# Altium schematic symbol library UZ_CarrierBoard.SCHLIB: 106 symbols
Pins are listed as number, name and electrical type; pins without a type are passive.

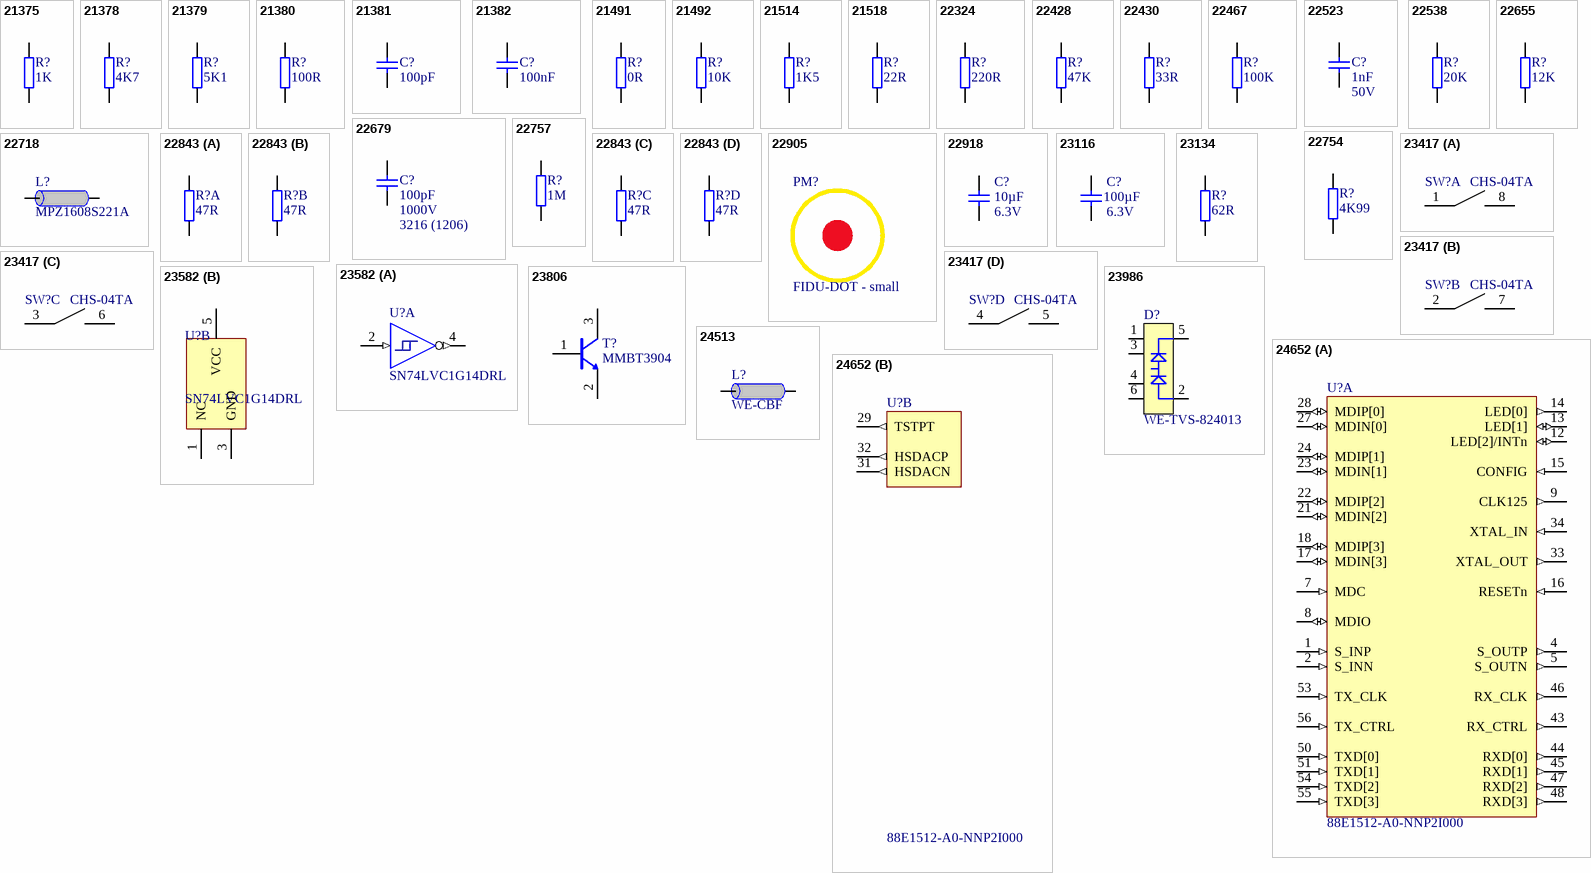
[diagram p0: symbols 21375 to 24652]

## 21375
designator R?, comment 1K
WID SMD 1K 1% 0,1W; AN: 21375; Mixed: SMT; Preferred: Yes; Extra: BF 1608 (0603); Value: 1K; Tolerance: 1%; Case: 1608 (0603); Technology: TK100
footprint RESC1608X55N_V
pins: 1, 2

## 21378
designator R?, comment 4K7
WID SMD 4K7 1% 0,1W BF 1608 (0603); Value: 4.7K; AN: 21378; Mixed: SMT; Preferred: Yes; Tolerance: 1%; Case: 1608 (0603); Technology: TK100
footprint RESC1608X55N_V
pins: 1, 2

## 21379
designator R?, comment 5K1
WID SMD 5K1 1% 0,1W; AN: 21379; Mixed: SMT; Value: 5.1K; Preferred: Yes; Extra: BF 1608 (0603); Tolerance: 1%; Case: 1608 (0603); Technology: TK100
footprint RESC1608X55N_V
pins: 1, 2

## 21380
designator R?, comment 100R
WID SMD 100R 1% 0,1W BF 1608 (0603); Value: 100; AN: 21380; Mixed: SMT; Preferred: Yes; Tolerance: 1%; Case: 1608 (0603); Technology: TK100
footprint RESC1608X55N_V
pins: 1, 2

## 21381
designator C?, comment 100pF
KON 100pF 50V NP0 ±5% SMD BF 1608 (0603); Value: 100p; AN: 21381; Mixed: SMT; Preferred: Yes; Tolerance: ±5%; Voltage: 50V; Technology: C0G NP0; Case: 1608 (0603)
footprint CAPC1608X90N_V
pins: 1, 2

## 21382
designator C?, comment 100nF
KON 100nF 50V X7R ±10% SMD BF 1608 (0603); Value: 100n; AN: 21382; Mixed: SMT; Preferred: Yes; Temperature-Range: -55/+125; Tolerance: ±10%; Voltage: 50V; Technology: X7R; Case: 1608 (0603)
footprint CAPC1608X90N_V
pins: 1, 2

## 21491
designator R?, comment 0R
WID SMD 0R 0,1W 1% TK100  BF 1608 (0603); Value: 0; AN: 21491; Mixed: SMT; Tolerance: 1%; Case: 1608 (0603); Technology: TK100
footprint RESC1608X55N_V
pins: 1, 2

## 21492
designator R?, comment 10K
WID SMD 10K 1% 0,1W  BF 1608 (0603); AN: 21492; Mixed: SMT; Preferred: Yes; Value: 10K; Tolerance: 1%; Case: 1608 (0603); Technology: TK100
footprint RESC1608X55N_V
pins: 1, 2

## 21514
designator R?, comment 1K5
WID SMD 1K5 1% 0,1W; Value: 1.5K; AN: 21514; Mixed: SMT; Extra: BF 1608 (0603); Tolerance: 1%; Case: 1608 (0603); Technology: TK100
footprint RESC1608X55N_V
pins: 1, 2

## 21518
designator R?, comment 22R
WID SMD 22R 1% 0,1W; Value: 22; AN: 21518; Mixed: SMT; Extra: BF 1608 (0603); Tolerance: 1%; Case: 1608 (0603); Technology: TK100
footprint RESC1608X55N_V
pins: 1, 2

## 22324
designator R?, comment 220R
WID SMD 220R 1% 0,1W; Value: 220; AN: 22324; Mixed: SMT; Extra: BF 1608 (0603); Tolerance: 1%; Case: 1608 (0603); Technology: TK100
footprint RESC1608X55N_V
pins: 1, 2

## 22428
designator R?, comment 47K
WID SMD 47K 1% 0,1W  BF 1608 (0603); AN: 22428; Mixed: SMT; Value: 47K; Tolerance: 1%; Case: 1608 (0603); Technology: TK100; Extra: BF 1608 (0603)
footprint RESC1608X55N_V
pins: 1, 2

## 22430
designator R?, comment 33R
WID SMD 33R 1% 0,1W; Value: 33; AN: 22430; Mixed: SMT; Extra: BF 1608 (0603); Tolerance: 1%; Case: 1608 (0603); Technology: TK100
footprint RESC1608X55N_V
pins: 1, 2

## 22467
designator R?, comment 100K
WID SMD 100K 1% 0,1W; AN: 22467; Mixed: SMT; Extra: BF 1608 (0603); Value: 100K; Tolerance: 1%; Case: 1608 (0603); Technology: TK100
footprint RESC1608X55N_V
pins: 1, 2

## 22523
designator C?, comment 1nF  Voltage: 50V
KON 1nF 50V NP0 5% SMD BF 1608 (0603); Value: 1n; AN: 22523; Mixed: SMT; Technology: NP0; Case: 1608 (0603)
footprint CAPC1608X90N_V
pins: 1, 2

## 22538
designator R?, comment 20K
WID SMD 20K 1% 0,1W; AN: 22538; Mixed: SMT; Extra: BF 1608 (0603); Value: 20K; Tolerance: 1%; Case: 1608 (0603); Technology: TK100
footprint RESC1608X55N_V
pins: 1, 2

## 22655
designator R?, comment 12K
WID SMD 12K 1% 0,1W; AN: 22655; Mixed: SMT; Extra: BF 1608 (0603); Tolerance: 1%; Case: 1608 (0603); Technology: TK100; Value: 12K
footprint RESC1608X55N_V
pins: 1, 2

## 22679
designator C?, comment 100pF  Voltage: 1000V  Case: 3216 (1206)
KON 100pF 1000V X7R 10%  BF 3216 (1206); Value: 100p; AN: 22679; Mixed: SMT; Preferred: Yes; Temperature-Range: -55/+125; Tolerance: 10%; Technology: X7R
footprint CAPC3216X180N_V
pins: 1, 2

## 22718
designator L?, comment MPZ1608S221A
Ferritdurchführung MPZ1608S221A; Value: 220 OHm @ 100MHz; AN: 22718; Mixed: SMT; Trenz-Stock: Yes; Temperature-Range: -55/+125; Extra: 0,05 Ohm DC, 220 Ohm bei 100MHz. 2A; Case: 1608 (0603); HelpURL: B:\AD\adlib\datasheet\MPZ1608; Preferred: Yes; H-ART: MPZ1608S221A; Storage-Temperature: -55/+125
footprint INDC1608X95N_V
pins: 1, 2

## 22754
designator R?, comment 4K99
WID SMD 4K99 1% 0,063W BF 1005 (0402); AN: 22754; Mixed: SMT; Value: 4.99K; Preferred: Yes; H-ART: RC0402FR-074K99L; Tolerance: 1%; Case: 1005 (0402); Technology: TK100
footprint RESC1005X40N_V
pins: 1, 2

## 22757
designator R?, comment 1M
WID SMD 1M 5% 0,25W  BF 3216 (1206); AN: 22757; Mixed: SMT; Preferred: Yes; Value: 1M; Tolerance: 5%; Case: 3216 (1206); Technology: TK100
footprint RESC3216X65N_V
pins: 1, 2

## 22843
designator R?, comment 47R
WID SMD Netz 4 fach 47R; AN: 22843; Tolerance: 5%; Mixed: SMT; Value: 47; Extra: BF 3216 (1206); Case: 3216 (1206)
footprint RESCAV80P160X320X70-8N
part A pins: 1, 8
part B pins: 2, 7
part C pins: 3, 6
part D pins: 4, 5

## 22905
designator PM?, comment FIDU-DOT - small
FIDU-DOT - SMALL 1mm; AN: 22905; Mixed: FIDU
footprint FIDU-DOT - small

## 22918
designator C?, comment 10µF  Voltage: 6.3V
KON 10µF 6,3V X5R SMD BF 1608 (0603); Value: 10u; AN: 22918; Mixed: SMT; Temperature-Range: -55/+85; Technology: X5R; Case: 1608 (0603)
footprint CAPC1608X90N_V
pins: 1, 2

## 23116
designator C?, comment 100µF  Voltage: 6.3V
KON 100µF 6,3V X5R 20% SMD BF 3216 (1206); AN: 23116; Mixed: SMT; Value: 100u; Preferred: Yes; Temperature-Range: -55/+85; Technology: X5R; Case: 3216 (1206); Tolerance: 20%
footprint CAPC3216X180N_V
pins: 1, 2

## 23134
designator R?, comment 62R
WID SMD 62R 1% 0,063W; Value: 62; AN: 23134; Mixed: SMT; Preferred: Yes; Extra: BF 1005 (0402); Tolerance: 1%; Case: 1005 (0402); Technology: TK100
footprint RESC1005X40N_V
pins: 1, 2

## 23417
designator SW?, comment CHS-04TA
DIP Schalter 4 fach 1,27mm SMD; AN: 23417; Mixed: SMT; Trenz-Stock: Yes; HelpURL: B:\AD\adlib\datasheet\CHS; Preferred: Yes; H-ART: CHS-04TA; Extra: CHS-04TA
footprint CHS-04TA
part A pins: 1, 8
part B pins: 2, 7
part C pins: 3, 6
part D pins: 4, 5

## 23582
designator U?, comment SN74LVC1G14DRL
AN: 23582; Mixed: SMT; Trenz-Stock: Yes; Extra: Single Schmitt-Trigger Inverter; Case: DRL; HelpURL: B:\AD\adlib\datasheet\SN74LVC1G14; H-ART: SN74LVC1G14DRL
footprint SOTFL50P160X60-5N
part A pins: 2 A (in), 4 Y (out)
part B pins: 1 NC, 3 GND (power), 5 VCC (power)

## 23806
designator T?, comment MMBT3904
AN: 23806; Mixed: SMT; Trenz-Stock: Yes; Extra: NPN General Purpose Amplifier; Case: SOT23-3; HelpURL: B:\AD\adlib\datasheet\MMBT3904; Preferred: Yes; H-ART: MMBT3904
footprint SOT95P280X145-3N
pins: 1 BASIS, 2 EMITTER, 3 COLLECTOR

## 23986
designator D?, comment WE-TVS-824013
TVS/Clamp Diode Array 3.3/9V Quad SOT23-6; AN: 23986; Mixed: SMT; Trenz-Stock: Yes; H-ART: 824013; Extra: ESD Protection for 4 lines, Low capacitance; Case: SOT23-6; HelpURL: B:\AD\adlib\datasheet\WE-TVS-824013; Preferred: Yes
footprint SOT95P280X145-6N
pins: 1 I/O1, 2 GND (power), 3 I/O2, 4 I/O3, 5 VDD (power), 6 I/O4

## 24513
designator L?, comment WE-CBF
Ferritdurchführung SMD 0805; AN: 24513; Voltage: 2000mA; Mixed: SMT; Trenz-Stock: Yes; H-ART: 742792040; Extra: 0,15 Ohm DC, 600 Ohm bei 100MHz, 700 Ohm bei 150Mhz, 2000mA; Case: 2012 (0805); Technology: 0.15Ohm; HelpURL: B:\AD\adlib\datasheet\742792040
footprint INDC2012X92N_V
pins: 1, 2

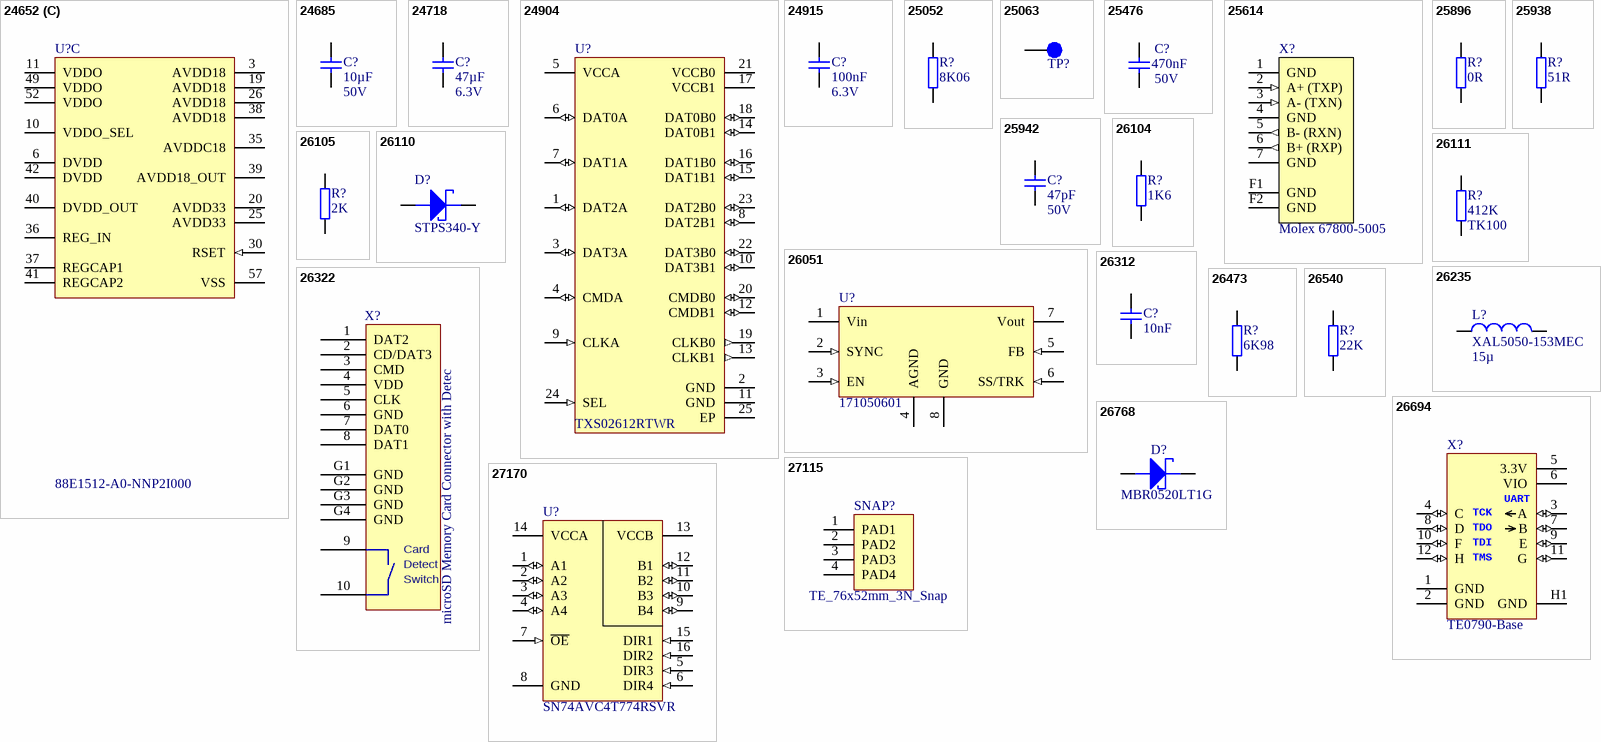
[diagram p1: symbols 24652 to 27170]

## 24652
designator U?, comment 88E1512-A0-NNP2I000
AN: 24652; Mixed: SMT; Trenz-Stock: Yes; Temperature-Range: -40/+85; Extra: Energy Efficient Gigabit Ethernet Transceiver, Industrial; Case: QFN56; HelpURL: B:\AD\adlib\datasheet\NDA\88E1512; Preferred: Yes; H-ART: 88E1512-A0-NNP2I000; Storage-Temperature: -55/+125 (Abs)
footprint QFN50P800X800X100-57N
part A pins: 1 S_INP (in), 2 S_INN (in), 4 S_OUTP (out), 5 S_OUTN (out), 7 MDC (in), 8 MDIO (io), 9 CLK125 (out), 12 LED[2]/INTn (io), 13 LED[1] (io), 14 LED[0] (out), 15 CONFIG (in), 16 RESETn (in), 17 MDIN[3] (io), 18 MDIP[3] (io), 21 MDIN[2] (io), 22 MDIP[2] (io), 23 MDIN[1] (io), 24 MDIP[1] (io), 27 MDIN[0] (io), 28 MDIP[0] (io), 33 XTAL_OUT (out), 34 XTAL_IN (in), 43 RX_CTRL (out), 44 RXD[0] (out), 45 RXD[1] (out), 46 RX_CLK (out), 47 RXD[2] (out), 48 RXD[3] (out), 50 TXD[0] (in), 51 TXD[1] (in), 53 TX_CLK (in), 54 TXD[2] (in), 55 TXD[3] (in), 56 TX_CTRL (in)
part B pins: 29 TSTPT (out), 31 HSDACN (out), 32 HSDACP (out)
part C pins: 3 AVDD18 (power), 6 DVDD (power), 10 VDDO_SEL (power), 11 VDDO (power), 19 AVDD18 (power), 20 AVDD33 (power), 25 AVDD33 (power), 26 AVDD18 (power), 30 RSET (in), 35 AVDDC18 (power), 36 REG_IN (power), 37 REGCAP1, 38 AVDD18 (power), 39 AVDD18_OUT (power), 40 DVDD_OUT (power), 41 REGCAP2, 42 DVDD (power), 49 VDDO (power), 52 VDDO (power), 57 VSS (power)

## 24685
designator C?, comment 10µF  Voltage: 50V
KON 10µF 50V X5R 10%  SMD BF 3216 (1206); Value: 10u; AN: 24685; Mixed: SMT; Temperature-Range: -55/+85; Preferred: Yes; Technology: X5R; Case: 3216 (1206); Tolerance: 10%
footprint CAPC3216X180N_V
pins: 1, 2

## 24718
designator C?, comment 47µF  Voltage: 6.3V
KON 47µF 6,3V X5R 20% SMD BF 2012 (0805); Value: 47u; AN: 24718; Mixed: SMT; Preferred: Yes; H-ART: CC0805MKX5R5BB476; Temperature-Range: -55/+85; Tolerance: 20%; Technology: X5R; Case: 2012 (0805)
footprint CAPC2012X135N_V
pins: 1, 2

## 24904
designator U?, comment TXS02612RTWR
AN: 24904; Mixed: SMT; Trenz-Stock: Yes; Extra: SDIO Port Expander With Voltage-Level Translation; HelpURL: B:\AD\adlib\datasheet\TXS02612; Case: QFN24; H-ART: TXS02612RTWR
footprint QFN50P400X400X80-25N-255
pins: 1 DAT2A (io) "Data bit 2. Referenced to VCCA.", 2 GND (power) "Ground", 3 DAT3A (io) "Data bit 3. Referenced to VCCA.", 4 CMDA (io) "Command bit. Referenced to VCCA.", 5 VCCA (power) "A-port supply voltage. 1.1 V = VCCA = 3.6 V.", 6 DAT0A (io) "Data bit 0. Referenced to VCCA.", 7 DAT1A (io) "Data bit 1. Referenced to VCCA.", 8 DAT2B1 (io) "Data bit 2. Referenced to VCCB1.", 9 CLKA (in) "Clock input A. Referenced to VCCA.", 10 DAT3B1 (io) "Data bit 3. Referenced to VCCB1.", 11 GND (power) "Ground", 12 CMDB1 (io) "Command bit. Referenced to VCCB1.", 13 CLKB1 (out) "Clock output. Referenced to VCCB1.", 14 DAT0B1 (io) "Data bit 0. Referenced to VCCB1.", 15 DAT1B1 (io) "Data bit 1. Referenced to VCCB1.", 16 DAT1B0 (io) "Data bit 1. Referenced to VCCB0.", 17 VCCB1 (power) "B1-port supply voltage. 1.1 V = VCCB1 = 3.6 V.", 18 DAT0B0 (io) "Data bit 0. Referenced to VCCB0.", 19 CLKB0 (out) "Clock output. Referenced to VCCB0.", 20 CMDB0 (io) "Command bit. Referenced to VCCB0.", 21 VCCB0 (power) "B0-port supply voltage. 1.1 V = VCCB0 = 3.6 V.", 22 DAT3B0 (io) "Data bit 3. Referenced to VCCB0.", 23 DAT2B0 (io) "Data bit 2. Referenced to VCCB0.", 24 SEL (in) "Select pin to choose between B0 and B1. Referenced to VCCA.", 25 EP "Ground"

## 24915
designator C?, comment 100nF  Voltage: 6.3V
KON 100nF 6.3V X5R 10% SMD BF 0603 (0201); AN: 24915; Mixed: SMT; Value: 100n; Preferred: Yes; Temperature-Range: -55/+85; Technology: X5R; Case: 0603 (0201); Tolerance: 10%
footprint CAPC0603X33N_V
pins: 1, 2

## 25052
designator R?, comment 8K06
WID SMD 8K06 1% 0,063W BF 1005 (0402); AN: 25052; Mixed: SMT; Value: 8.06K; Preferred: Yes; Tolerance: 1%; Case: 1005 (0402); Technology: TK100
footprint RESC1005X40N_V
pins: 1, 2

## 25063
designator TP?, comment Testpoint 1mm  (value not drawn)
AN: 25063; Mixed: SMT
footprint TP_1mm
pins: 1

## 25476
designator C?, comment 470nF  Voltage: 50V
KON 470nF 50V X7R SMD  BF 1608 (0603); Value: 470n; AN: 25476; Mixed: SMT; Preferred: Yes; Temperature-Range: -55/+125; Technology: X7R; Case: 1608 (0603)
footprint CAPC1608X90N_V
pins: 1, 2

## 25614
designator X?, comment Molex 67800-5005
SATA 7Pol. Connector Vertical; AN: 25614; Mixed: SMT; HelpURL: B:\AD\adlib\datasheet\67800-5005; H-ART: 67800-5005; Extra: Molex 67800-5005
footprint 67800-5005
pins: 1 GND (power), 2 A+ (TXP) (in), 3 A- (TXN) (in), 4 GND (power), 5 B- (RXN) (out), 6 B+ (RXP) (out), 7 GND (power), F1 GND (power), F2 GND (power)

## 25896
designator R?, comment 0R
WID SMD 0R 0,25W; Value: 0; Tolerance: 1%; AN: 25896; Mixed: SMT; Preferred: Yes; Extra: BF 3216 (1206); Case: 3216 (1206); Technology: TK100
footprint RESC3216X65N_V
pins: 1, 2

## 25938
designator R?, comment 51R
WID SMD 51R 1% 0,1W  BF 1608 (0603); Value: 51; AN: 25938; Mixed: SMT; Preferred: Yes; Tolerance: 1%; Case: 1608 (0603); Technology: TK100
footprint RESC1608X55N_V
pins: 1, 2

## 25942
designator C?, comment 47pF  Voltage: 50V
KON 47pF 50V NP0 5%  SMD BF 1608 (0603); Value: 47p; AN: 25942; Mixed: SMT; Preferred: Yes; Tolerance: 5%; Technology: NP0; Case: 1608 (0603)
footprint CAPC1608X90N_V
pins: 1, 2

## 26051
designator U?, comment 171050601
AN: 26051; Mixed: SMT; Extra: 6-36V 5A MagI³C Power Module; Voltage: Adj.; Temperature-Range: -40/+125 (Tj); HelpURL: B:\AD\adlib\datasheet\171050601; Case: TO263-7EP; H-ART: 171050601; Storage-Temperature: -65/+150 (Abs)
footprint 7TO-PMOD
pins: 1 Vin (power), 2 SYNC (in), 3 EN (in), 4 AGND (power), 5 FB (in), 6 SS/TRK (in), 7 Vout (power), 8 GND (power)

## 26104
designator R?, comment 1K6
WID SMD 1K6 1% 0,1W AEC-Q200  BF 1608 (0603); Value: 1.6k; AN: 26104; Mixed: SMT; Tolerance: 1%; Technology: TK100; Case: 1608 (0603); HelpURL: B:\AD\adlib\datasheet\DCRCWe3
footprint RESC1608X55N_V
pins: 1, 2

## 26105
designator R?, comment 2K
WID SMD 2K 1% 0,1W AEC-Q200  BF 1608 (0603); AN: 26105; Mixed: SMT; Value: 2k; Tolerance: 1%; Technology: TK100; Case: 1608 (0603); HelpURL: B:\AD\adlib\datasheet\DCRCWe3
footprint RESC1608X55N_V
pins: 1, 2

## 26110
designator D?, comment STPS340-Y
Schottky Diode 3A 40V DO-214AA, SMB; AN: 26110; Mixed: SMT; H-ART: STPS340-UY; Extra: AEC-Q101; Case: SMB; Voltage: 40V; Technology: AEC-Q200; HelpURL: B:\AD\adlib\datasheet\STPS340-Y
footprint DIOM5336X265N
pins: 1 KATHODE, 2 ANODE

## 26111
designator R?, comment 412K  Technology: TK100
WID SMD 412K 1% 0,1W AEC-Q200; AN: 26111; Mixed: SMT; Preferred: Yes; Extra: BF 1608 (0603); Value: 412k; Tolerance: 1%; Case: 1608 (0603); HelpURL: B:\AD\adlib\datasheet\DCRCWe3
footprint RESC1608X55N_V
pins: 1, 2

## 26235
designator L?, comment XAL5050-153MEC  value 15µ
Power Inductor 15µH 20% 3.9A 76.7mOhms; AN: 26235; Mixed: SMT; Voltage: 3.9A 76.7mOhms; HelpURL: B:\AD\adlib\datasheet\xal50xx; H-ART: XAL5050-153MEC; Extra: XAL5050-153MEC
footprint IND_XAL5050
pins: 1, 2

## 26312
designator C?, comment 10nF
KON 10nF 10V X7R 10% SMD BF 0603 (0201); AN: 26312; Mixed: SMT; Value: 10n; Preferred: Yes; Temperature-Range: -55/+125; Voltage: 10V; Technology: X7R; Case: 0603 (0201); Tolerance: 10%
footprint CAPC0603X33N_V
pins: 1, 2

## 26322
designator X?, comment microSD Memory Card Connector with Detec
microSD Memory Card Connector with Detect Switch; AN: 26322; Mixed: SMT; Trenz-Stock: Yes; H-ART: 104031-0811; Temperature-Range: -25/+85; Extra: Molex 104031-0811; Case: microSD; HelpURL: B:\AD\adlib\datasheet\104031-0811; Storage-Temperature: -10/+60
footprint 104031-0811
pins: 1 DAT2, 2 CD/DAT3, 3 CMD, 4 VDD, 5 CLK, 6 GND, 7 DAT0, 8 DAT1, 9 CDSW, 10 CDSW, G1 GND, G2 GND, G3 GND, G4 GND
text: Card; Detect; Switch

## 26473
designator R?, comment 6K98
WID SMD 6K98 1% 0,1W  BF 1608 (0603); AN: 26473; Mixed: SMT; Value: 6.98k; Preferred: Yes; Tolerance: 1%; Case: 1608 (0603); Technology: TK100
footprint RESC1608X55N_V
pins: 1, 2

## 26540
designator R?, comment 22K
WID SMD 22K 1% 0,1W  BF 1608 (0603); AN: 26540; Mixed: SMT; Tolerance: 1%; Case: 1608 (0603); Technology: TK100; Value: 22K
footprint RESC1608X55N_V
pins: 1, 2

## 26694
designator X?, comment TE0790-Base
AN: 26694; Mixed: THT; Trenz-Article-Number: 22495; Extra: Connector on Baseboard
footprint TE0790-Base
pins: 1 GND (power), 2 GND (power), 3 A (io), 4 C (io), 5 3.3V (power), 6 VIO (power), 7 B (io), 8 D (io), 9 E (io), 10 F (io), 11 G (io), 12 H (io), H1 GND (power)
text: UART; TCK; TDO; TDI; TMS

## 26768
designator D?, comment MBR0520LT1G
Schottky Diode 0.5A 20V SOD-123; AN: 26768; Mixed: SMT; Extra: AEC−Q101; Value: 20V; Case: SOD123-FC; Voltage: 0.5A; HelpURL: B:\AD\adlib\datasheet\MBR0520; H-ART: MBR0520LT1G
footprint SOD3816X120N
pins: 1 KATHODE, 2 ANODE

## 27115
designator SNAP?, comment TE_76x52mm_3N_Snap  (no BOM)
TE0808 76x52mm Snap; AN: 27115; Mixed: SMT
footprint TE_76x52mm_Snap
pins: 1 PAD1 (power), 2 PAD2 (power), 3 PAD3 (power), 4 PAD4 (power)

## 27170
designator U?, comment SN74AVC4T774RSVR
AN: 27170; Mixed: SMT; Trenz-Stock: Yes; Extra: 4-Bit Dual-Supply Bus Transceiver With Configurable Voltage Translationand 3-Sta; HelpURL: B:\ad\adlib\datasheet\sn74avc4t774; Case: UQFN-16; H-ART: SN74AVC4T774RSVR
footprint QFN40P260X180X55-16N
pins: 1 A1 (io), 2 A2 (io), 3 A3 (io), 4 A4 (io), 5 DIR3 (in), 6 DIR4 (in), 7 ~{OE} (in), 8 GND (power), 9 B4 (io), 10 B3 (io), 11 B2 (io), 12 B1 (io), 13 VCCB (power), 14 VCCA (power), 15 DIR1 (in), 16 DIR2 (in)

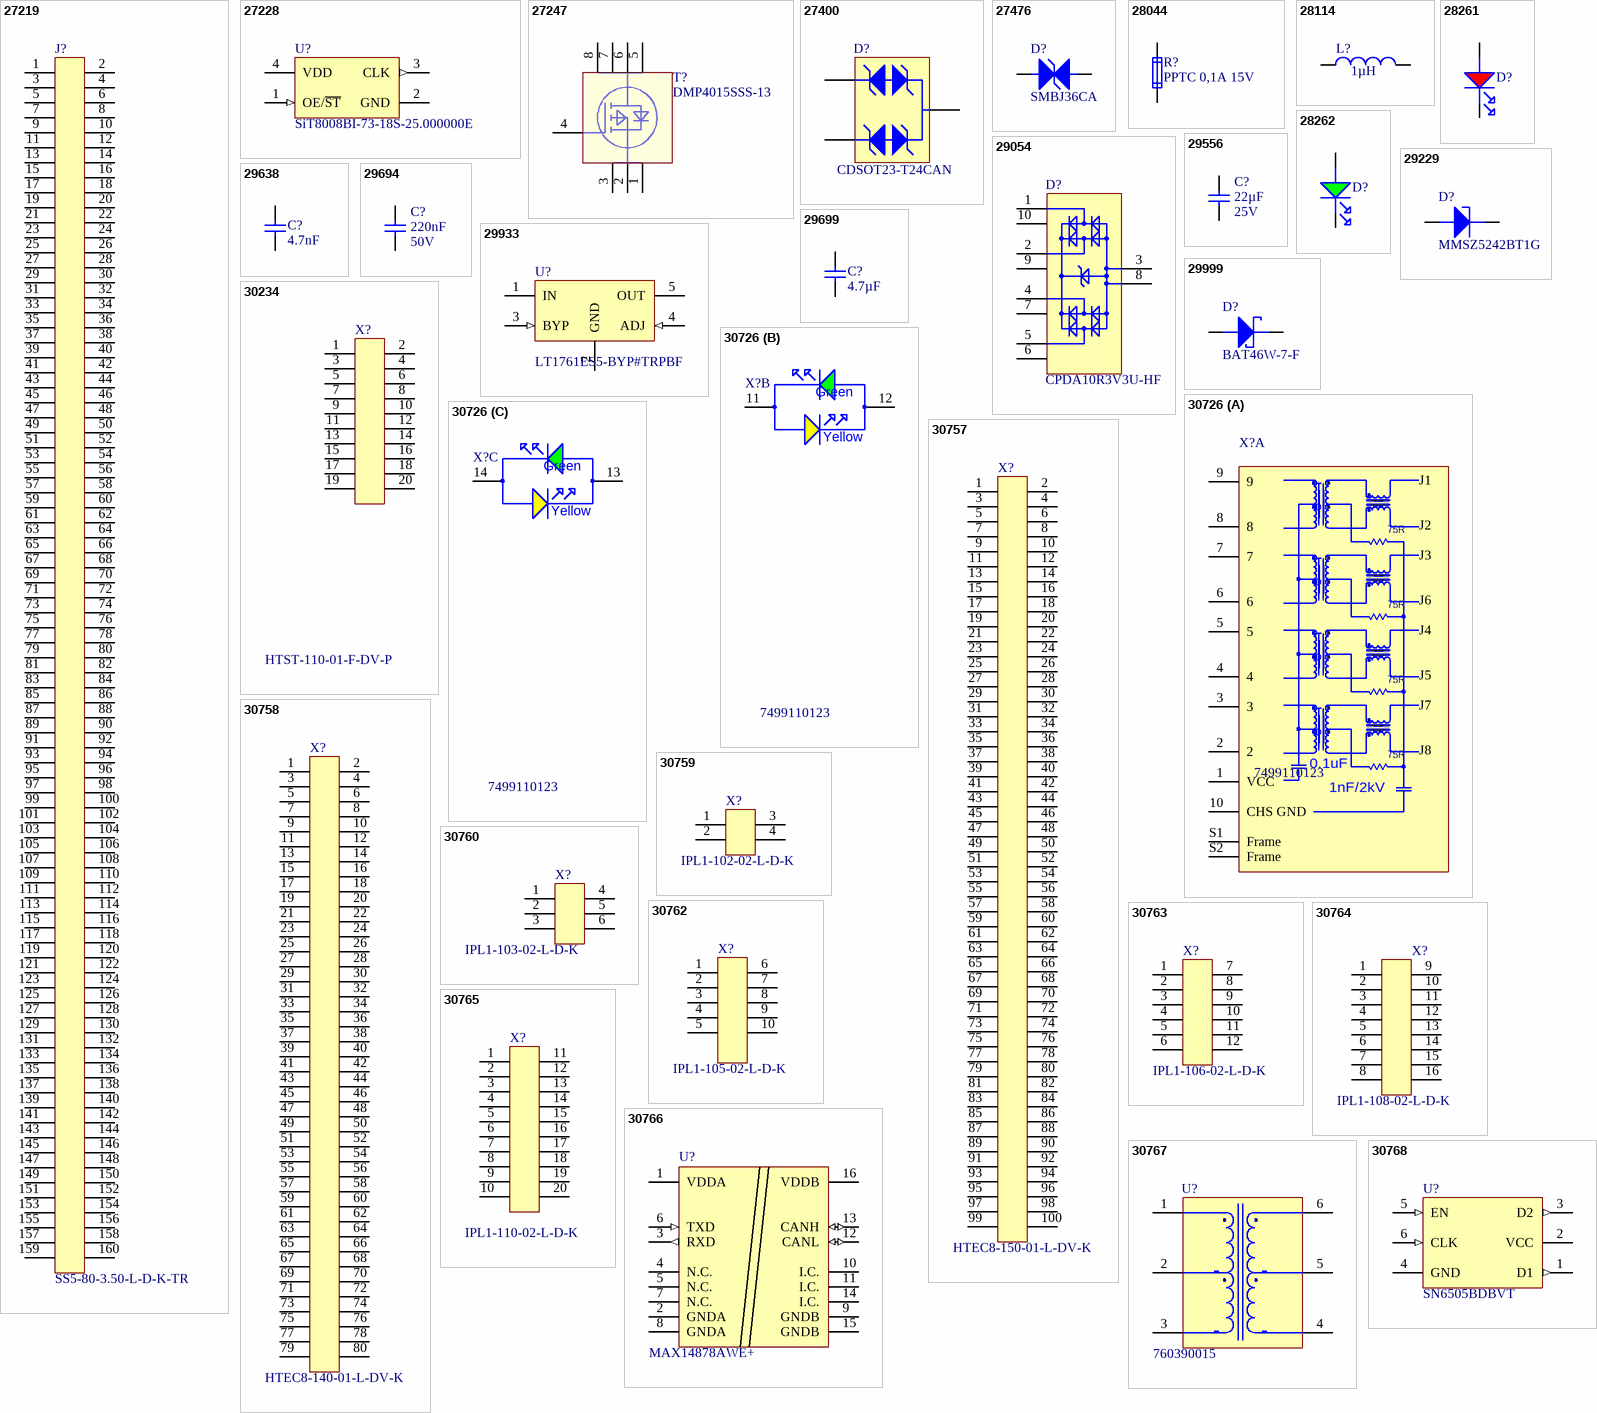
[diagram p2: symbols 27219 to 30768]

## 27219
designator J?, comment SS5-80-3.50-L-D-K-TR
Samtec Ultra Fine Pitch Socket REF192552-01, 160 Pins; AN: 27219; Mixed: SMT; Preferred: Yes; Extra: SS5 160pins Connector Socket Female SS5⁃80⁃3.50⁃L⁃D⁃K⁃TR; HelpURL: B:\ad\adlib\datasheet\SS5-XX-X.XX-X-D-K-TR; H-ART: REF 192552-01
footprint SS5-80-3.50-L-D-K-TR
pins: 1, 2, 3, 4, 5, 6, 7, 8, 9, 10, 11, 12, 13, 14, 15, 16, 17, 18, 19, 20, 21, 22, 23, 24, 25, 26, 27, 28, 29, 30, 31, 32, 33, 34, 35, 36, 37, 38, 39, 40, 41, 42, 43, 44, 45, 46, 47, 48, 49, 50, 51, 52, 53, 54, 55, 56, 57, 58, 59, 60, 61, 62, 63, 64, 65, 66, 67, 68, 69, 70, 71, 72, 73, 74, 75, 76, 77, 78, 79, 80, 81, 82, 83, 84, 85, 86, 87, 88, 89, 90, 91, 92, 93, 94, 95, 96, 97, 98, 99, 100, 101, 102, 103, 104, 105, 106, 107, 108, 109, 110, 111, 112, 113, 114, 115, 116, 117, 118, 119, 120, 121, 122, 123, 124, 125, 126, 127, 128, 129, 130, 131, 132, 133, 134, 135, 136, 137, 138, 139, 140, 141, 142, 143, 144, 145, 146, 147, 148, 149, 150, 151, 152, 153, 154, 155, 156, 157, 158, 159, 160

## 27228
designator U?, comment SiT8008BI-73-18S-25.000000E
SiT8008BI-73-18S-25.000000E MEMS Oszillator 25.000000MHz; Value: 25M; Voltage: 1.8V; AN: 27228; Mixed: SMT; Preferred: Yes; Temperature-Range: -40/+85; Extra: 1.8V , -40° C - 85° C , ±50 ppm , 2x1,6 mm; HelpURL: B:\AD\adlib\datasheet\SiT8008; Case: 2.0  x 1.6mm; H-ART: SIT8008BI-73-18S-25.000000E; Storage-Temperature: -65/+150 (Abs)
footprint 2016
pins: 1 OE/~{ST} (in), 2 GND (power), 3 CLK (out), 4 VDD (power)

## 27247
designator T?, comment DMP4015SSS-13
AN: 27247; Mixed: SMT; Trenz-Stock: Yes; Extra: P-Channel PowerTrench® MOSFET -40V, -9,1A, 15mΩ; Case: SO8; HelpURL: B:\ad\adlib\datasheet\DMP4015SSS; H-ART: DMP4015SSS-13
footprint SOIC127P600X175-8N
pins: 1 SOURCE, 2 SOURCE, 3 SOURCE, 4 GATE, 5 DRAIN, 6 DRAIN, 7 DRAIN, 8 DRAIN

## 27400
designator D?, comment CDSOT23-T24CAN
TVS Diode 24/40V SOT23-3; AN: 27400; Mixed: SMT; Extra: ESD Protection of 2 lines, CAN bus, Bidirectional; Case: SOT23-3; HelpURL: b:\AD\adlib\datasheet\CDSOT23-T24CAN; H-ART: CDSOT23-T24CAN
footprint SOT95P237X112-3N
pins: 1 IO1, 2 IO2, 3 GND
1 alternate drawing of the same symbol

## 27476
designator D?, comment SMBJ36CA
TVS Diode 36/75.5V 600W; AN: 27476; Voltage: 36V; Mixed: SMT; Extra: Bidirectional; Value: 600W; Case: SMB DO-214AA; HelpURL: b:\AD\adlib\datasheet\SMBJ_STM\; H-ART: SMBJ36CA
footprint DIOM5236X261N
pins: 1 KATHODE, 2 ANODE

## 28044
designator R?, comment PPTC 0,1A 15V
PTC Resettable Fuse 0.1A 15V SMD 0805; AN: 28044; Mixed: SMT; H-ART: MF-PSMF010X-2; Value: 0.1A; HelpURL: B:\AD\adlib\datasheet\MF-PSMF; Case: 2012 (0805); Voltage: 15V; Extra: MF-PSMF010X-2
footprint RESC2012X85N
pins: 1, 2

## 28114
designator L?, comment 1µH
IND SMD 1µH 2.7A 59mOhm Shielded; Value: 1u; AN: 28114; Tolerance: 20%; Mixed: SMT; H-ART: MAMK2520T1R0M; Temperature-Range: -40/+105; Voltage: 2.7A; Case: 2520 (1008); HelpURL: b:\AD\adlib\datasheet\TAIYO_MA\; Extra: MAMK2520T1R0M
footprint INDC2520X120N
pins: 1, 2

## 28261
designator D?, comment LED Red 19-213/R6C-AL1M2VY/3T  (value not drawn)
Chip LED 0603 Briliant Red; AN: 28261; Mixed: SMT; Extra: Led Red SMD 0603 , 19-213/R6C-AL1M2VY/3T; Preferred: Yes; Case: 1608 (0603); HelpURL: b:\AD\adlib\datasheet\19-213-R6C\; H-ART: 19-213/R6C-AL1M2VY/3T
footprint LEDC1608X55N_RED
pins: A, K

## 28262
designator D?, comment LED Green 19-213/G6C-BM1N2/DT  (value not drawn)
Chip LED 0603 Briliant Green; AN: 28262; Mixed: SMT; Temperature-Range: -40/+85 (Abs); Extra: Led Green SMD 0603; Preferred: Yes; Case: 1608 (0603); HelpURL: b:\AD\adlib\datasheet\19-213-G6C-BM1\; H-ART: 19-213/G6C-BM1N2/DT
footprint LEDC1608X55N_GREEN
pins: A, K

## 29054
designator D?, comment CPDA10R3V3U-HF
AN: 29054; Voltage: 3.3V; Mixed: SMT; Temperature-Range: -55/+125; Extra: Diode Array TVS Diode ESD Protection 4-channel; Case: TSLP-9-1; HelpURL: b:\AD\adlib\datasheet\CPDA10R3V3U-HF\; H-ART: CPDA10R3V3U-HF
footprint DFN230X100X55X10N
pins: 1, 2, 3, 4, 5, 6, 7, 8, 9, 10

## 29229
designator D?, comment MMSZ5242BT1G
Zener Diode 12V 500mW ±5% SOD-123; AN: 29229; Mixed: SMT; Temperature-Range: -55/+150 (Tj abs); Case: SOD123; Voltage: 12V; HelpURL: b:\AD\adlib\datasheet\MMSZ52xxBT1G\; H-ART: MMSZ5242BT1G
footprint SOD3715X135N
pins: 1 KATHODE, 2 ANODE

## 29556
designator C?, comment 22µF  Voltage: 25V
KON 22µF 25V  X5R 20% SMD BF 2012 (0805); Value: 22u; AN: 29556; Mixed: SMT; Temperature-Range: -55/+85; Technology: X5R; Case: 2012 (0805); Tolerance: 20%
footprint CAPC2012X135N_V
pins: 1, 2

## 29638
designator C?, comment 4.7nF
KON 4.7nF 50V NP0 ±5%  SMD BF 1608 (0603); Value: 4.7n; AN: 29638; Mixed: SMT; Tolerance: ±5%; Voltage: 50V; Technology: NP0; Case: 1608 (0603)
footprint CAPC1608X90N_V
pins: 1, 2

## 29694
designator C?, comment 220nF  Voltage: 50V
KON 220nF 50V X7R ±10% SMD BF 1608 (0603); Value: 220n; AN: 29694; Mixed: SMT; Temperature-Range: -55/+125; Tolerance: ±10%; Technology: X7R; Case: 1608 (0603)
footprint CAPC1608X90N_V
pins: 1, 2

## 29699
designator C?, comment 4.7µF
KON 4.7µF 25V X5R 20%  SMD BF 1608 (0603); Value: 4.7u; AN: 29699; Mixed: SMT; Preferred: Yes; Temperature-Range: -55/+85; Tolerance: 20%; Voltage: 25V; Technology: X5R; Case: 1608 (0603)
footprint CAPC1608X90N_V
pins: 1, 2

## 29933
designator U?, comment LT1761ES5-BYP#TRPBF
AN: 29933; Voltage: 5V; Mixed: SMT; Trenz-Stock: Yes; Temperature-Range: -40/+125(Tj); Extra: 20V In, 5V Out 100mA, Low Noise, LDO Micropower Regulators TSOT-23; Case: SOT23-5; HelpURL: b:\AD\adlib\datasheet\LT1761\; H-ART: LT1761ES5-BYP#TRPBF; Storage-Temperature: -65/+150(Abs)
footprint SOT95P280X100-5N
pins: 1 IN (power), 2 GND (power), 3 BYP (in), 4 ADJ (in), 5 OUT (power)

## 29999
designator D?, comment BAT46W-7-F
Schottky Diode 0.150A 100V SOD-123; AN: 29999; Mixed: SMT; Value: 150mA; Temperature-Range: -55/+125; Extra: AEC-Q101; Case: SOD123; Voltage: 100V; HelpURL: b:\AD\adlib\datasheet\Diodes_Inc\BAT46W\; H-ART: BAT46W-7-F; Storage-Temperature: -55/+150
footprint SOD3715X145N
pins: 1 KATHODE, 2 ANODE

## 30234
designator X?, comment HTST-110-01-F-DV-P
Stiftleiste Wanne 20 polig SMD; AN: 30234; Mixed: SMT; Temperature-Range: -55/+125; Extra: 2 reihig RM2,54, gerade; Case: HTST; HelpURL: b:\AD\adlib\datasheet\Samtec\HTST\; H-ART: HTST-110-01-F-DV-P
footprint HTST-110-01-F-DV
pins: 1, 2, 3, 4, 5, 6, 7, 8, 9, 10, 11, 12, 13, 14, 15, 16, 17, 18, 19, 20
1 alternate drawing of the same symbol

## 30726
designator X?, comment 7499110123
LAN-Transformer 10/100/1000 BaseT; AN: 30726; Mixed: THT; Trenz-Stock: Yes; Temperature-Range: -40/+85; Extra: 7499110123, -40 to +85 °C, 0°; HelpURL: b:\AD\adlib\datasheet\Wuerth\WE-RJ45\7499110123\; H-ART: 7499110123
footprint 7499110123
part A pins: 1 VCC (power), 2, 3, 4, 5, 6, 7, 8, 9, 10 CHS GND (power), S1 Frame, S2 Frame
part B pins: 11 GREEN, 12 YELLOW
part C pins: 13 GREEN, 14 YELLOW
1 alternate drawing of the same symbol
part A text: J1; 75R; J2; J3; J6; J4; J5; J7; J8; 0.1uF; 1nF/2kV
part B text: Green; Yellow
part C text: Green; Yellow

## 30757
designator X?, comment HTEC8-150-01-L-DV-K
AN: 30757; Mixed: SMT; Temperature-Range: -55/+125; Extra: Samtec 0.80 mm High-Speed Edge Card Connector, 100pin 10µ Plating; Case: HTEC8; HelpURL: b:\AD\adlib\datasheet\Samtec\HTEC8\; H-ART: HTEC8-150-01-L-DV-K
footprint HTEC8-150-XX-X-DV
pins: 1, 2, 3, 4, 5, 6, 7, 8, 9, 10, 11, 12, 13, 14, 15, 16, 17, 18, 19, 20, 21, 22, 23, 24, 25, 26, 27, 28, 29, 30, 31, 32, 33, 34, 35, 36, 37, 38, 39, 40, 41, 42, 43, 44, 45, 46, 47, 48, 49, 50, 51, 52, 53, 54, 55, 56, 57, 58, 59, 60, 61, 62, 63, 64, 65, 66, 67, 68, 69, 70, 71, 72, 73, 74, 75, 76, 77, 78, 79, 80, 81, 82, 83, 84, 85, 86, 87, 88, 89, 90, 91, 92, 93, 94, 95, 96, 97, 98, 99, 100

## 30758
designator X?, comment HTEC8-140-01-L-DV-K
AN: 30758; Mixed: SMT; Temperature-Range: -55/+125; Extra: Samtec 0.80 mm High-Speed Edge Card Connector, 80pin 10µ Plating; Case: HTEC8; HelpURL: b:\AD\adlib\datasheet\Samtec\HTEC8\; H-ART: HTEC8-140-01-L-DV-K
footprint HTEC8-140-XX-X-DV
pins: 1, 2, 3, 4, 5, 6, 7, 8, 9, 10, 11, 12, 13, 14, 15, 16, 17, 18, 19, 20, 21, 22, 23, 24, 25, 26, 27, 28, 29, 30, 31, 32, 33, 34, 35, 36, 37, 38, 39, 40, 41, 42, 43, 44, 45, 46, 47, 48, 49, 50, 51, 52, 53, 54, 55, 56, 57, 58, 59, 60, 61, 62, 63, 64, 65, 66, 67, 68, 69, 70, 71, 72, 73, 74, 75, 76, 77, 78, 79, 80

## 30759
designator X?, comment IPL1-102-02-L-D-K
AN: 30759; Mixed: SMT; H-ART: IPL1-102-02-L-D-K-TR; Temperature-Range: -55/+125; Extra: Connector Header IPL1, 2-row 4pos, key polarization, SMT 0°; Case: IPL1; HelpURL: b:\AD\adlib\datasheet\Samtec\IPL1-SMT\
footprint IPL1-102-02-L-D-K
pins: 1, 2, 3, 4
1 alternate drawing of the same symbol

## 30760
designator X?, comment IPL1-103-02-L-D-K
AN: 30760; Mixed: SMT; H-ART: IPL1-103-02-L-D-K-TR; Temperature-Range: -55/+125; Extra: Connector Header IPL1, 2-row 6pos, key polarization, SMT 0°; Case: IPL1; HelpURL: b:\AD\adlib\datasheet\Samtec\IPL1-SMT\
footprint IPL1-103-02-L-D-K
pins: 1, 2, 3, 4, 5, 6
1 alternate drawing of the same symbol

## 30762
designator X?, comment IPL1-105-02-L-D-K
AN: 30762; Mixed: SMT; H-ART: IPL1-105-02-L-D-K-TR; Temperature-Range: -55/+125; Extra: Connector Header IPL1, 2-row 10pos, key polarization, SMT 0°; Case: IPL1; HelpURL: b:\AD\adlib\datasheet\Samtec\IPL1-SMT\
footprint IPL1-105-02-L-D-K
pins: 1, 2, 3, 4, 5, 6, 7, 8, 9, 10
1 alternate drawing of the same symbol

## 30763
designator X?, comment IPL1-106-02-L-D-K
AN: 30763; Mixed: SMT; H-ART: IPL1-106-02-L-D-K-TR; Temperature-Range: -55/+125; Extra: Connector Header IPL1, 2-row 12pos, key polarization, SMT 0°; Case: IPL1; HelpURL: b:\AD\adlib\datasheet\Samtec\IPL1-SMT\
footprint IPL1-106-02-L-D-K
pins: 1, 2, 3, 4, 5, 6, 7, 8, 9, 10, 11, 12
1 alternate drawing of the same symbol

## 30764
designator X?, comment IPL1-108-02-L-D-K
AN: 30764; Mixed: SMT; H-ART: IPL1-108-02-L-D-K-TR; Temperature-Range: -55/+125; Extra: Connector Header IPL1, 2-row 16pos, key polarization, SMT 0°; Case: IPL1; HelpURL: b:\AD\adlib\datasheet\Samtec\IPL1-SMT\
footprint IPL1-108-02-L-D-K
pins: 1, 2, 3, 4, 5, 6, 7, 8, 9, 10, 11, 12, 13, 14, 15, 16
1 alternate drawing of the same symbol

## 30765
designator X?, comment IPL1-110-02-L-D-K
AN: 30765; Mixed: SMT; H-ART: IPL1-110-02-L-D-K-TR; Temperature-Range: -55/+125; Extra: Connector Header IPL1, 2-row 20pos, key polarization, SMT 0°; Case: IPL1; HelpURL: b:\AD\adlib\datasheet\Samtec\IPL1-SMT\
footprint IPL1-110-02-L-D-K
pins: 1, 2, 3, 4, 5, 6, 7, 8, 9, 10, 11, 12, 13, 14, 15, 16, 17, 18, 19, 20
1 alternate drawing of the same symbol

## 30766
designator U?, comment MAX14878AWE+
AN: 30766; Mixed: SMT; Trenz-Stock: Yes; Temperature-Range: -40/+125; Extra: 5kV Isolated CAN Transceiver SOIC-16; Case: SOIC16; HelpURL: b:\AD\adlib\datasheet\Maxim\MAX14878\; H-ART: MAX14878AWE+; Storage-Temperature: -60/+150(Abs)
footprint SOIC127P1030X265-16N
pins: 1 VDDA (power) "Power Supply Input for the Controller Side/A-Side. Bypass VDDA to GNDA with 0.1μF capacitor as close to the device as possible.", 2 GNDA (power), 3 RXD (out), 4 N.C. "No Connection. Not internally connected. Connect to GNDA, VDDA, or leave unconnected.", 5 N.C. "No Connection. Not internally connected. Connect to GNDA, VDDA, or leave unconnected.", 6 TXD (in), 7 N.C. "No Connection. Not internally connected. Connect to GNDA, VDDA, or leave unconnected.", 8 GNDA (power), 9 GNDB (power), 10 I.C. "Internally Connected. Connect to GNDB or leave unconnected.", 11 I.C. "Internally Connected. Connect to GNDB, VDDB, or leave unconnected.", 12 CANL (io) "Differential I/O", 13 CANH (io) "Differential I/O", 14 I.C. "Internally Connected. Connect to GNDB or leave unconnected.", 15 GNDB (power), 16 VDDB (power) "Power Supply Input for the CAN Bus Side/B-Side. Bypass VDDB to GNDB with a 0.1μF capacitor as close to the device as possible."
1 alternate drawing of the same symbol

## 30767
designator U?, comment 760390015
AN: 30767; Mixed: SMT; Temperature-Range: -40/+125; Extra: Push-Pull Transformer 1:2 0.35A; Case: MID-PPTI; HelpURL: b:\AD\adlib\datasheet\Wuerth\MID-PPTI\760390015\; H-ART: 760390015
footprint 760390015
pins: 1, 2, 3 10, 4, 5, 6

## 30768
designator U?, comment SN6505BDBVT
AN: 30768; Mixed: SMT; Temperature-Range: -55/+125; Extra: 1-A Transformer Driver for Isolated Power Supplies SOT23-6; Case: SOT23-6; HelpURL: b:\AD\adlib\datasheet\TI\SN6505x\; H-ART: SN6505BDBVT; Storage-Temperature: -65/+150 (Abs)
footprint SOT95P280X145-6N
pins: 1 D1 (out), 2 VCC (power), 3 D2 (out), 4 GND (power), 5 EN (in), 6 CLK (in)

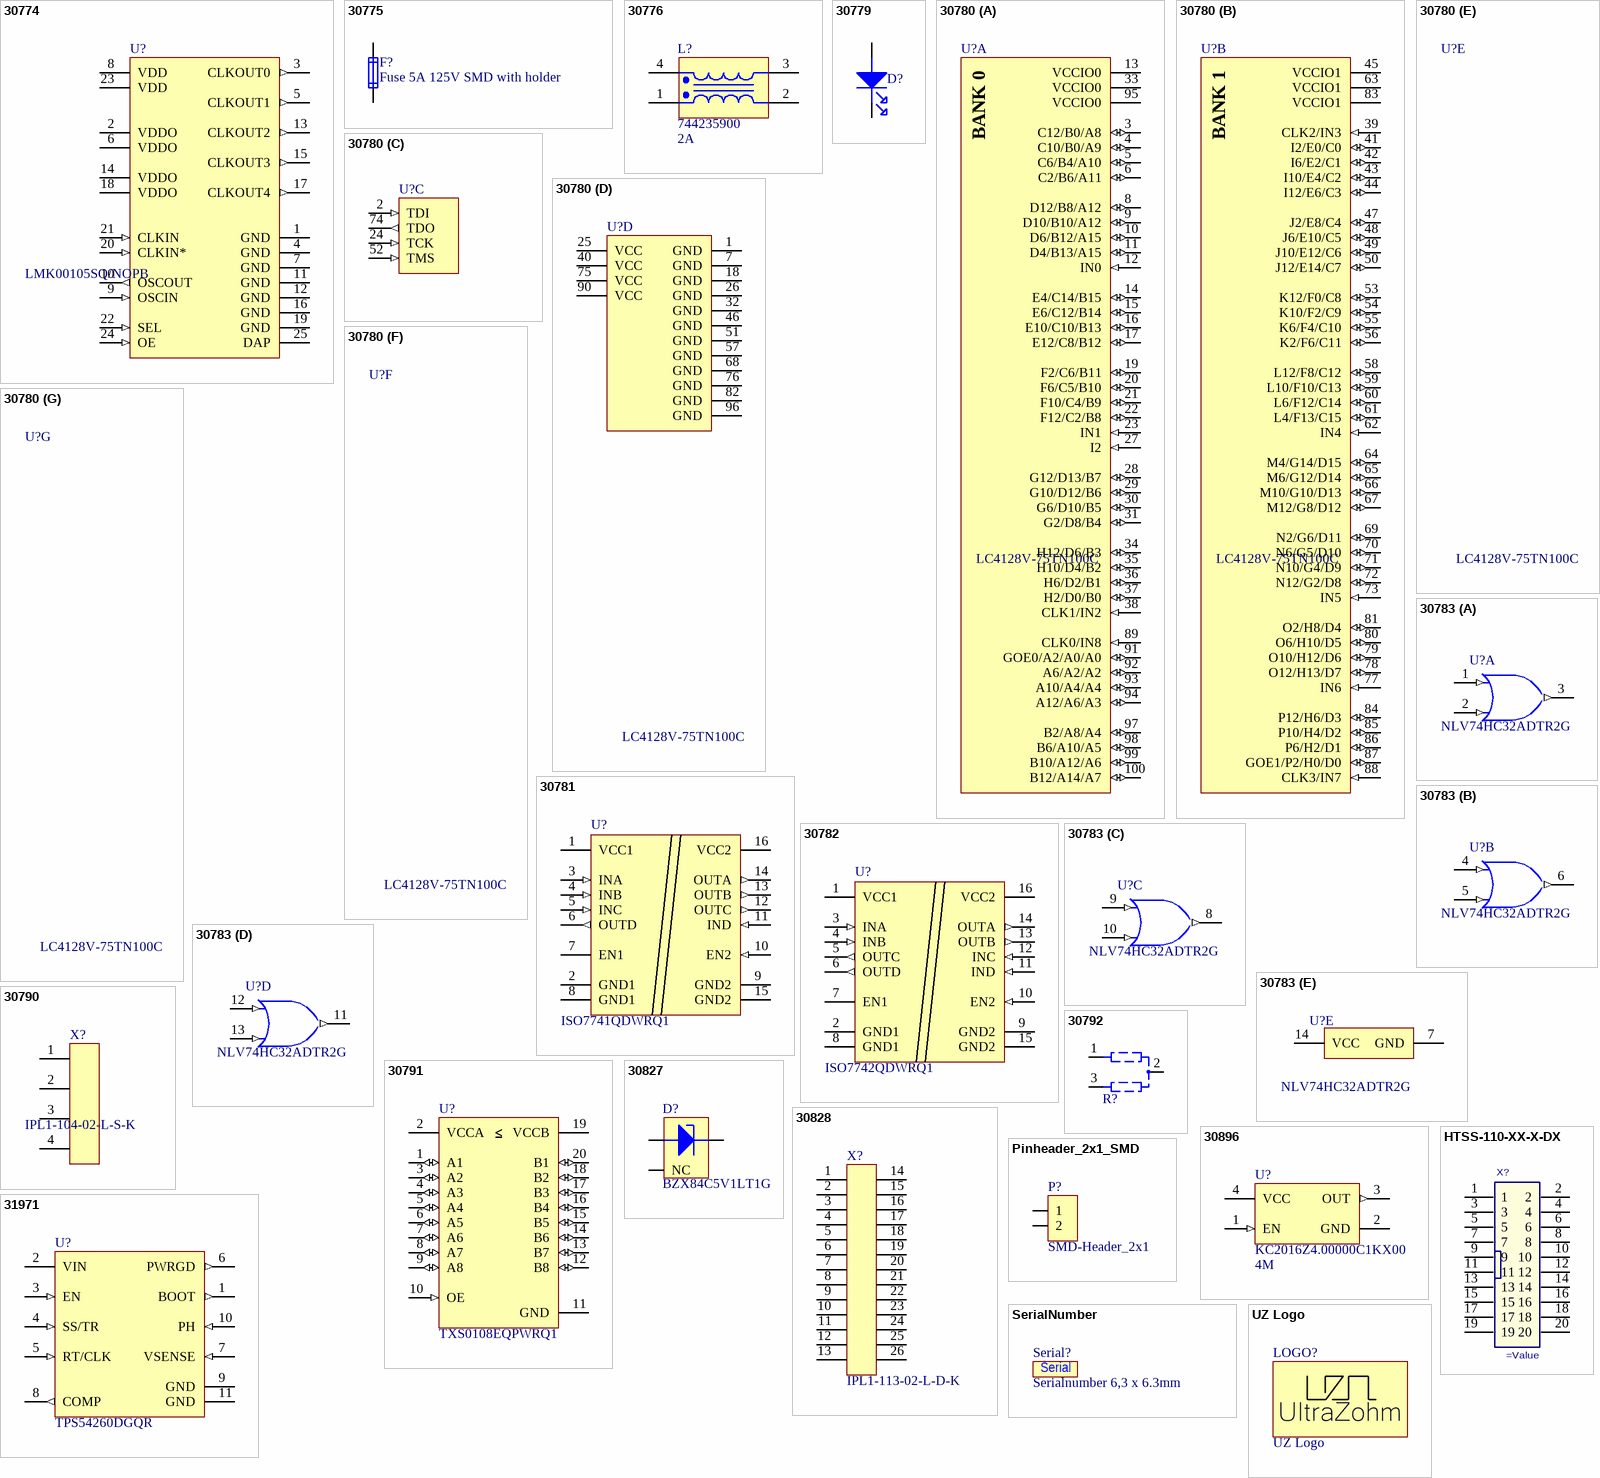
[diagram p3: symbols 30774 to UZ Logo]

## 30774
designator U?, comment LMK00105SQ/NOPB
AN: 30774; Mixed: SMT; Temperature-Range: -40/+85; Extra: Clock Fanout Buffer (Distribution), Multiplexer, Translator 2:5 200MHz 24-WFQN; Case: WQFN24; HelpURL: b:\AD\adlib\datasheet\TI\LMK00105\; H-ART: LMK00105SQ/NOPB; Storage-Temperature: -65/+150 (Tj Abs)
footprint QFN50P400X400X80-25N
pins: 1 GND (power), 2 VDDO (power), 3 CLKOUT0 (out), 4 GND (power), 5 CLKOUT1 (out), 6 VDDO (power), 7 GND (power), 8 VDD (power), 9 OSCIN (in), 10 OSCOUT (out), 11 GND (power), 12 GND (power), 13 CLKOUT2 (out), 14 VDDO (power), 15 CLKOUT3 (out), 16 GND (power) "Port 1 I/O 6", 17 CLKOUT4 (out), 18 VDDO (power), 19 GND (power), 20 CLKIN* (in), 21 CLKIN (in), 22 SEL (in), 23 VDD (power), 24 OE (in), 25 DAP (power)
1 alternate drawing of the same symbol

## 30775
designator F?, comment Fuse 5A 125V SMD with holder
AN: 30775; Mixed: SMT; Trenz-Stock: Yes; H-ART: 0154005.DR; Temperature-Range: -55/+125; Voltage: 125V; Value: 5A; HelpURL: b:\AD\adlib\datasheet\Littelfuse\154_Series\; Extra: 0154005.DR
footprint 0154xxx
pins: 1, 2

## 30776
designator L?, comment 744235900  Voltage: 2A
Common Mode Choke SMT 0.3uH 2A 50mOhms; AN: 30776; Tolerance: 20%; Value: 0.3u; Temperature-Range: -40/+85; Case: WE-CNSW-1812; Technology: 50mOhm; Mixed: SMT; HelpURL: b:\AD\adlib\datasheet\Wuerth\WE-CNSW\744235900\; H-ART: 744235900; Extra: 744235900
footprint WE-CNSW-1812
pins: 1, 2, 3, 4

## 30779
designator D?, comment 150060BS75000  (value not drawn)
Chip LED 0603 Blue; AN: 30779; Mixed: SMT; Temperature-Range: -40/+85; Case: 1608 (0603); HelpURL: b:\AD\adlib\datasheet\Wuerth\WL-SMCW\150060BS75000\; H-ART: 150060BS75000; Storage-Temperature: -40/+85; Extra: 150060BS75000
footprint LEDC1608X70N_BLUE
pins: A, K

## 30780
designator U?, comment LC4128V-75TN100C
AN: 30780; Mixed: SMT; Trenz-Stock: Yes; Temperature-Range: 0/+90 (Tj); Extra: Lattice ispMACH 4000 CPLD; Case: TQFP100; HelpURL: b:\AD\adlib\datasheet\Lattice\ispMACH-4000\; H-ART: LC4128V-75TN100C; Storage-Temperature: -65/+150 (Abs)
footprint QFP50P1600X1600X160-100N
part A pins: 3 C12/B0/A8 (io), 4 C10/B0/A9 (io), 5 C6/B4/A10 (io), 6 C2/B6/A11 (io), 8 D12/B8/A12 (io), 9 D10/B10/A12 (io), 10 D6/B12/A15 (io), 11 D4/B13/A15 (io), 12 IN0 (in), 13 VCCIO0 (power), 14 E4/C14/B15 (io), 15 E6/C12/B14 (io), 16 E10/C10/B13 (io), 17 E12/C8/B12 (io), 19 F2/C6/B11 (io), 20 F6/C5/B10 (io), 21 F10/C4/B9 (io), 22 F12/C2/B8 (io), 23 IN1 (in), 27 I2 (in), 28 G12/D13/B7 (io), 29 G10/D12/B6 (io), 30 G6/D10/B5 (io), 31 G2/D8/B4 (io), 33 VCCIO0 (power), 34 H12/D6/B3 (io), 35 H10/D4/B2 (io), 36 H6/D2/B1 (io), 37 H2/D0/B0 (io), 38 CLK1/IN2 (in), 89 CLK0/IN8 (in), 91 GOE0/A2/A0/A0 (io), 92 A6/A2/A2 (io), 93 A10/A4/A4 (io), 94 A12/A6/A3 (io), 95 VCCIO0 (power), 97 B2/A8/A4 (io), 98 B6/A10/A5 (io), 99 B10/A12/A6 (io), 100 B12/A14/A7 (io)
part B pins: 39 CLK2/IN3 (in), 41 I2/E0/C0 (io), 42 I6/E2/C1 (io), 43 I10/E4/C2 (io), 44 I12/E6/C3 (io), 45 VCCIO1 (power), 47 J2/E8/C4 (io), 48 J6/E10/C5 (io), 49 J10/E12/C6 (io), 50 J12/E14/C7 (io), 53 K12/F0/C8 (io), 54 K10/F2/C9 (io), 55 K6/F4/C10 (io), 56 K2/F6/C11 (io), 58 L12/F8/C12 (io), 59 L10/F10/C13 (io), 60 L6/F12/C14 (io), 61 L4/F13/C15 (io), 62 IN4 (in), 63 VCCIO1 (power), 64 M4/G14/D15 (io), 65 M6/G12/D14 (io), 66 M10/G10/D13 (io), 67 M12/G8/D12 (io), 69 N2/G6/D11 (io), 70 N6/G5/D10 (io), 71 N10/G4/D9 (io), 72 N12/G2/D8 (io), 73 IN5 (in), 77 IN6 (in), 78 O12/H13/D7 (io), 79 O10/H12/D6 (io), 80 O6/H10/D5 (io), 81 O2/H8/D4 (io), 83 VCCIO1 (power), 84 P12/H6/D3 (io), 85 P10/H4/D2 (io), 86 P6/H2/D1 (io), 87 GOE1/P2/H0/D0 (io), 88 CLK3/IN7 (in)
part C pins: 2 TDI (in), 24 TCK (in), 52 TMS (in), 74 TDO (out)
part D pins: 1 GND (power), 7 GND (power), 18 GND (power), 25 VCC (power), 26 GND (power), 32 GND (power), 40 VCC (power), 46 GND (power), 51 GND (power), 57 GND (power), 68 GND (power), 75 VCC (power), 76 GND (power), 82 GND (power), 90 VCC (power), 96 GND (power)
1 alternate drawing of the same symbol
part A text: BANK 0
part B text: BANK 1

## 30781
designator U?, comment ISO7741QDWRQ1
AN: 30781; Mixed: SMT; Temperature-Range: -40/+125; Extra: General Purpose Digital Isolator 5000Vrms 4 Channel 100Mbps 3/1 16-SOIC; Case: SOIC16; HelpURL: b:\AD\adlib\datasheet\TI\ISO774x\; H-ART: ISO7741QDWRQ1; Storage-Temperature: -65/+150(Abs)
footprint SOIC127P1030X265-16N
pins: 1 VCC1 (power), 2 GND1 (power), 3 INA (in), 4 INB (in), 5 INC (in), 6 OUTD (out), 7 EN1, 8 GND1 (power), 9 GND2 (power), 10 EN2 (in), 11 IND (in), 12 OUTC (out), 13 OUTB (out), 14 OUTA (out), 15 GND2 (power), 16 VCC2 (power)

## 30782
designator U?, comment ISO7742QDWRQ1
AN: 30782; Mixed: SMT; Temperature-Range: -40/+125; Extra: General Purpose Digital Isolator 5000Vrms 4 Channel 100Mbps 2/2 16-SOIC; Case: SOIC16; HelpURL: b:\AD\adlib\datasheet\TI\ISO774x\; H-ART: ISO7742QDWRQ1; Storage-Temperature: -65/+150(Abs)
footprint SOIC127P1030X265-16N
pins: 1 VCC1 (power), 2 GND1 (power), 3 INA (in), 4 INB (in), 5 OUTC (out), 6 OUTD (out), 7 EN1, 8 GND1 (power), 9 GND2 (power), 10 EN2 (in), 11 IND (in), 12 INC (in), 13 OUTB (out), 14 OUTA (out), 15 GND2 (power), 16 VCC2 (power)

## 30783
designator U?, comment NLV74HC32ADTR2G
AN: 30783; Mixed: SMT; Trenz-Stock: Yes; Temperature-Range: -55/+125; Extra: Quad 2-Input Positive-Or Gate; Case: TSSOP14; HelpURL: b:\AD\adlib\datasheet\ON_Semiconductor\MC74HC32A\; H-ART: NLV74HC32ADTR2G; Storage-Temperature: -65/+150 (Abs)
footprint SOP65P640X120-14N
part A pins: 1 A1 (in), 2 B1 (in), 3 Y1 (out)
part B pins: 4 A2 (in), 5 B2 (in), 6 Y2 (out)
part C pins: 8 Y3 (out), 9 A3 (in), 10 B3 (in)
part D pins: 11 Y4 (out), 12 A4 (in), 13 B4 (in)
part E pins: 7 GND (power), 14 VCC (power)

## 30790
designator X?, comment IPL1-104-02-L-S-K
AN: 30790; Mixed: SMT; H-ART: IPL1-104-02-L-S-K-TR; Temperature-Range: -55/+125; Extra: Connector Header IPL1, 1-row 4pos, key polarization, SMT 0°; Case: IPL1; HelpURL: b:\AD\adlib\datasheet\Samtec\IPL1-SMT\
footprint IPL1-104-02-L-S-K
pins: 1, 2, 3, 4
2 alternate drawings of the same symbol

## 30791
designator U?, comment TXS0108EQPWRQ1
AN: 30791; Mixed: SMT; Temperature-Range: -40/+85; Extra: 8-Bit Bidirectional Voltage Translator for OD/Push-Pull; HelpURL: b:\AD\adlib\datasheet\TI\TXS0108E-Q1\; H-ART: TXS0108EQPWRQ1; Storage-Temperature: -65/+150(Abs); Case: TSSOP20
footprint SOP65P640X120-20N
pins: 1 A1 (io), 2 VCCA (power), 3 A2 (io), 4 A3 (io), 5 A4 (io), 6 A5 (io), 7 A6 (io), 8 A7 (io), 9 A8 (io), 10 OE (in), 11 GND (power), 12 B8 (io), 13 B7 (io), 14 B6 (io), 15 B5 (io), 16 B4 (io), 17 B3 (io), 18 B2 (io), 19 VCCB (power), 20 B1 (io)

## 30792
designator R?, comment Manual Assembly 1608 (0603)  (value not drawn)  (no BOM)
Manual Assembly Resistors Placeholder 1608 (0603) Dual; AN: 30792; Mixed: MECH
footprint TP_DUAL_RES_0603
pins: 1, 2, 3

## 30827
designator D?, comment BZX84C5V1LT1G
Zener Diode 5.1V 6% 225mW; AN: 30827; Mixed: SMT; Temperature-Range: -65/+150 (Tj Abs); Case: SOT23-3; Voltage: 5.1V; HelpURL: b:\AD\adlib\datasheet\ON_Semiconductor\BZX84CxxxLT1G\; H-ART: BZX84C5V1LT1G; Storage-Temperature: -65/+150 (Tj Abs)
footprint SOT95P237X112-3N
pins: 1 ANODE, 2 NC (power), 3 KATHODE

## 30828
designator X?, comment IPL1-113-02-L-D-K
AN: 30828; Mixed: SMT; Temperature-Range: -55/+125; Extra: Connector Header IPL1, 2-row 26pos, key polarization, SMT 0°; Case: IPL1; HelpURL: b:\AD\adlib\datasheet\Samtec\IPL1-SMT\; H-ART: IPL1-113-02-L-D-K
footprint IPL1-113-02-L-D-K
pins: 1, 2, 3, 4, 5, 6, 7, 8, 9, 10, 11, 12, 13, 14, 15, 16, 17, 18, 19, 20, 21, 22, 23, 24, 25, 26
1 alternate drawing of the same symbol

## 30896
designator U?, comment KC2016Z4.00000C1KX00  value 4M
KC2016Z4.00000C1KX00 Oszillator 4.000000MHz; AN: 30896; Voltage: 1.8-3.3V; Tolerance: 20ppm; Mixed: SMT; Temperature-Range: -40/+85; Extra: 1.71 - 3.63V, -40° C - 85° C , ±20 ppm , 2x1,6 mm; Case: 2.0  x 1.6mm; HelpURL: b:\AD\adlib\datasheet\Kyocera\KCxxxxZ\; H-ART: KC2016Z4.00000C1KX00; Storage-Temperature: -55/+150(Abs)
footprint 2016
pins: 1 EN (in), 2 GND (power), 3 OUT (out), 4 VCC (power)

## 31971
designator U?, comment TPS54260DGQR
(cs) TPS54260DGQR; AN: 31971; Mixed: SMT; Trenz-Stock: Yes; Extra: Customer 53430 / TEC0194-01-S001; Case: MSOP10 DGQ (S-PDSO-G10); Technology: AEC-Q200; HelpURL: B:\AD\adlib\datasheet\TPS54260; H-ART: TPS54260DGQR
footprint TSSOP50P490X110-11N-TI-DGQ
pins: 1 BOOT (out), 2 VIN (power), 3 EN (in), 4 SS/TR (in), 5 RT/CLK (in), 6 PWRGD (out), 7 VSENSE (in), 8 COMP (out), 9 GND (power), 10 PH (in), 11 GND (power)

## HTSS-110-XX-X-DX
designator X?
2.54mm Double Row Terminal Assembly; MF: SAMTEC; Created: 2018_11_25_AGeiger; Value: =MPN
footprint HTSS-110-01-L-DV
pins: 1, 2, 3, 4, 5, 6, 7, 8, 9, 10, 11, 12, 13, 14, 15, 16, 17, 18, 19, 20

## Pinheader_2x1_SMD
designator P?, comment SMD-Header_2x1
SMD-Header, 2-Pin; Created: 2018_12_05_AGeiger; Value: SMD-Header_2x1
footprint HDR1X2_SMD (SMD Connector; Header; 2 Position)
pins: 1, 2

## SerialNumber
designator Serial?, comment Serialnumber 6,3 x 6.3mm  (no BOM)
Created: 2018_09_18_AGeiger; Value: Serialnumber 6,3 x 6.3mm
footprint Serial_6.3x6.3mm
text: Serial

## UZ Logo
designator LOGO?  (no BOM)
UltraZohm Logo on PCB; Created: Jan2021_Liegmann; Value: UZ Logo
footprint UZ_Logo_large (logo width 6cm)
footprint UZ_Logo_medium (logo width 4.5cm)
footprint UZ_Logo_small (logo width 3cm)
footprint UZ_Logo_tiny (logo width 2cm)